# Altium schematic symbol library SCH - POWER - LINEAR VREG - TI TPS7H1101A-SPHKR.SchLib: 1 symbol
Pins are listed as number, name and electrical type; pins without a type are passive.

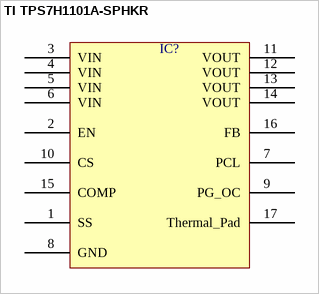
[diagram p0: symbol TI TPS7H1101A-SPHKR]

## TI TPS7H1101A-SPHKR
designator IC?  (value not drawn)
pins: 1 SS, 2 EN, 3 VIN, 4 VIN, 5 VIN, 6 VIN, 7 PCL, 8 GND, 9 PG_OC, 10 CS, 11 VOUT, 12 VOUT, 13 VOUT, 14 VOUT, 15 COMP, 16 FB, 17 Thermal_Pad